# EAGLE library part DS26LV32AT (library Line_Drivers)
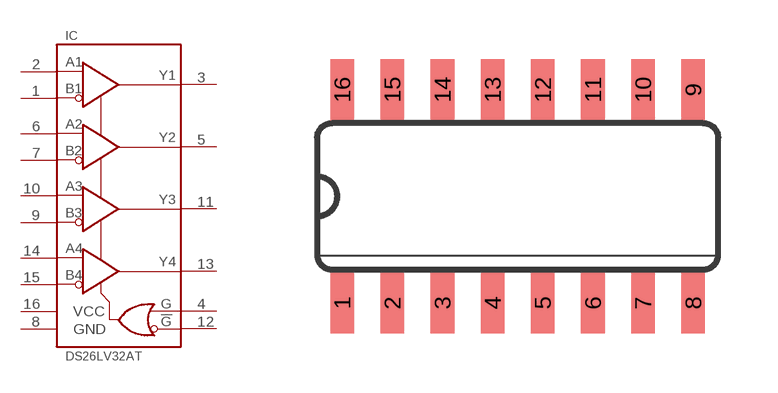
[diagram p1: symbol with the pads of SO-16; footprint SO-16]

Designator prefix IC

## DS26LV32AT  [SO-16]
1  B1  in
2  A1  in
3  Y1  out
4  G  in
5  Y2  out
6  A2  in
7  B2  in
8  GND  pwr
9  B3  in
10  A3  in
11  Y3  out
12  !G  in
13  Y4  out
14  A4  in
15  B4  in
16  VCC  pwr

## Footprint SO-16 (pad centres in mm)
smd 0.6 x 1.55: 1 -4.445,-2.7; 2 -3.175,-2.7; 3 -1.905,-2.7; 4 -0.635,-2.7; 5 0.635,-2.7; 6 1.905,-2.7; 7 3.175,-2.7; 8 4.445,-2.7; 9 4.445,2.7; 10 3.175,2.7; 11 1.905,2.7; 12 0.635,2.7; 13 -0.635,2.7; 14 -1.905,2.7; 15 -3.175,2.7; 16 -4.445,2.7